# Altium footprint library CartSimple.PCBLIB: 166 footprints (part 1 of 11)
Each footprint in its own frame and in the unit in brackets; x right, y up, seen from the top. Pads: shape width x height; smd on the part's side, far side on the other; paste and mask are expansions set on the pad; w line width, h text height; cw(c..) or ccw(c..) is an arc to the next point about the centre after c.
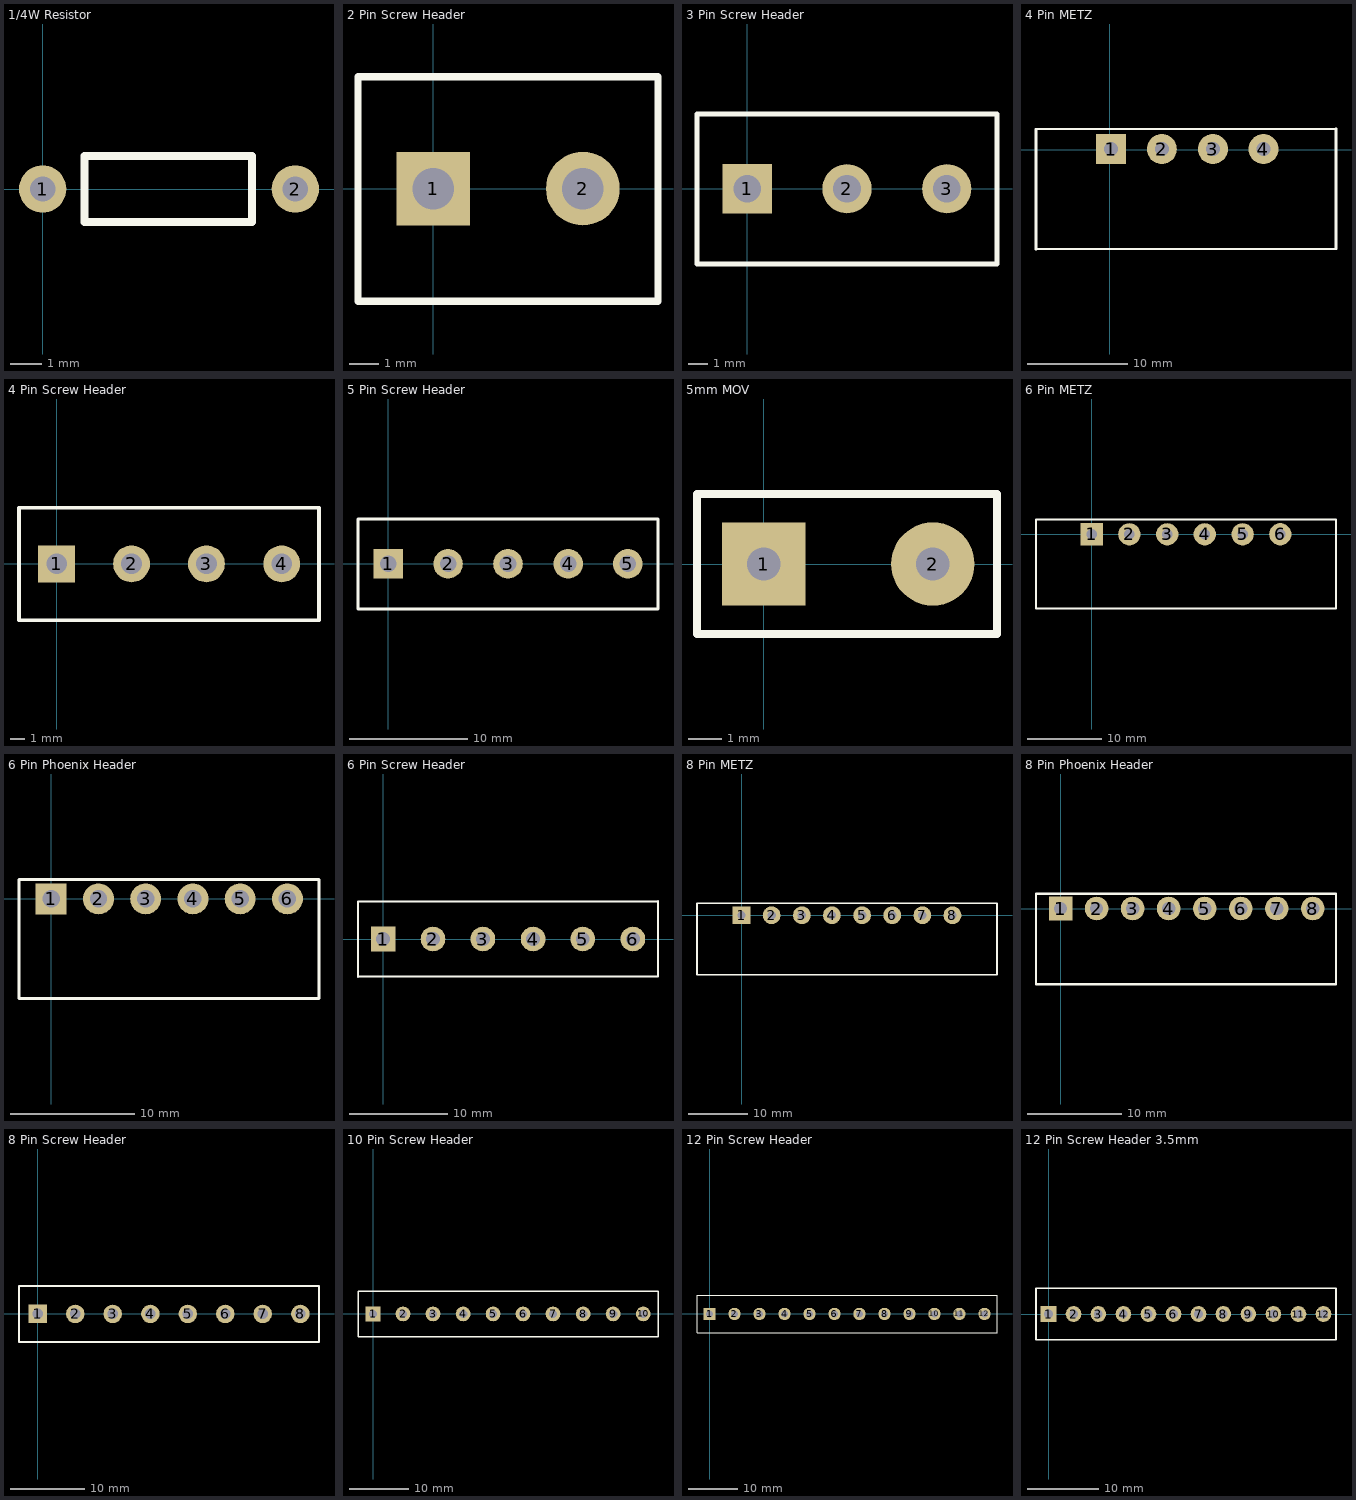
[diagram p0: the footprints below, top view; thin cyan lines are the x and y axes]

## 1/4W Resistor [mm]
pads (2):
  round 1.5 hole 0.8: 1(0,0) 2(8,0)
Top Overlay:
  lines w0.254: 1.325,-1.05 1.325,1.05 6.625,1.05 6.625,-1.05 1.325,-1.05

## 2 Pin Screw Header [mm]
pads (2):
  rect 2.5x2.5 hole 1.4: 1(0,0)
  round 2.5 hole 1.4: 2(5.075,0)
Top Overlay:
  lines w0.254: -2.55,-3.825 7.625,-3.825 7.625,3.8 -2.55,3.8 -2.55,-3.825

## 3 Pin Screw Header  [mm]
pads (3):
  rect 2.5x2.5 hole 1.4: 1(0,0)
  round 2.5 hole 1.4: 2(5.075,0) 3(10.15,0)
Top Overlay:
  lines w0.254: -2.55,-3.825 -2.55,3.8 12.7,3.8 12.7,-3.825 -2.55,-3.825

## 4 Pin METZ [mm] "4 Way 5.08 Header"
pads (4):
  rect 3x3 hole 1.4: 1(0.125,0.05)
  round 3 hole 1.4: 2(5.2,0.05) 3(10.3,0.05) 4(15.35,0.05)
Top Overlay:
  lines w0.254: -7.375,-9.95 22.6,-9.925 22.6,2.075 -7.375,2.05 -7.375,-9.95

## 4 Pin Screw Header [mm]
pads (4):
  rect 2.5x2.5 hole 1.4: 1(0,0)
  round 2.5 hole 1.4: 2(5.075,0) 3(10.15,0) 4(15.25,0)
Top Overlay:
  lines w0.254: -2.55,-3.825 17.775,-3.825 17.775,3.8 -2.55,3.8 -2.55,-3.825

## 5 Pin Screw Header  [mm]
pads (5):
  rect 2.5x2.5 hole 1.4: 1(0,0)
  round 2.5 hole 1.4: 2(5.075,0) 3(10.15,0) 4(15.25,0) 5(20.3,0)
Top Overlay:
  lines w0.254: -2.55,-3.825 22.85,-3.825 22.85,3.8 -2.55,3.8 -2.55,-3.825

## 5mm MOV [mm]
pads (2):
  rect 2.5x2.5 hole 1: 1(0,0)
  round 2.5 hole 1: 2(5.075,0)
Top Overlay:
  lines w0.254: -2,-2.1 -2,2.1 7,2.1 7,-2.1 -2,-2.1

## 6 Pin METZ  [mm] "6 Way 5.08 Header"
pads (6):
  rect 3x3 hole 1.4: 1(0,0)
  round 3 hole 1.4: 2(5.075,0) 3(10.175,0) 4(15.225,0) 5(20.325,0) 6(25.399,0.008)
Top Overlay:
  lines w0.254: -7.5,-10 -7.5,2 32.9,2 32.9,-10 -7.5,-10

## 6 Pin Phoenix Header  [mm]
pads (6):
  rect 2.5x2.5 hole 1.4: 1(0,0)
  round 2.5 hole 1.4: 2(3.81,0) 3(7.62,0) 4(11.43,0) 5(15.24,0) 6(19.05,0)
Top Overlay:
  lines w0.254: -2.6,-8.025 21.6,-8.025 21.6,1.55 -2.6,1.55 -2.6,-8.025

## 6 Pin Screw Header  [mm]
pads (6):
  rect 2.5x2.5 hole 1.4: 1(0,0)
  round 2.5 hole 1.4: 2(5.075,0) 3(10.15,0) 4(15.25,0) 5(20.3,0) 6(25.4,0)
Top Overlay:
  lines w0.254: -2.55,-3.825 27.95,-3.8 27.95,3.825 -2.55,3.8 -2.55,-3.825

## 8 Pin METZ [mm]
pads (8):
  rect 3x3 hole 1.4: 1(0,0)
  round 3 hole 1.4: 2(5.075,0) 3(10.175,0) 4(15.225,0) 5(20.325,0) 6(25.399,0.008) 7(30.475,0) 8(35.55,0)
Top Overlay:
  lines w0.254: -7.5,-10 43.05,-10 43.05,2 -7.5,2 -7.5,-10

## 8 Pin Phoenix Header [mm] "3.81mm 8 pin header"
pads (8):
  rect 2.5x2.5 hole 1.4: 1(0,0)
  round 2.5 hole 1.4: 2(3.81,0) 3(7.62,0) 4(11.43,0) 5(15.24,0) 6(19.05,0) 7(22.86,0) 8(26.67,0)
Top Overlay:
  lines w0.254: -2.6,-8.025 29.125,-8 29.125,1.575 -2.6,1.55 -2.6,-8.025

## 8 Pin Screw Header [mm]
pads (8):
  rect 2.5x2.5 hole 1.4: 1(0,0)
  round 2.5 hole 1.4: 2(5.075,0) 3(10.15,0) 4(15.25,0) 5(20.325,0) 6(25.4,0) 7(30.475,0) 8(35.575,0)
Top Overlay:
  lines w0.254: -2.55,-3.825 -2.55,3.8 38.1,3.8 38.1,-3.825 -2.55,-3.825

## 10 Pin Screw Header  [mm]
pads (10):
  rect 2.5x2.5 hole 1.4: 1(0,0)
  round 2.5 hole 1.4: 2(5.075,0) 3(10.15,0) 4(15.25,0) 5(20.325,0) 6(25.4,0) 7(30.475,0) 8(35.575,0) 9(40.65,0) 10(45.75,0)
Top Overlay:
  lines w0.254: -2.55,-3.825 48.25,-3.825 48.25,3.8 -2.55,3.8 -2.55,-3.825

## 12 Pin Screw Header  [mm]
pads (12):
  rect 2.5x2.5 hole 1.4: 1(0,0)
  round 2.5 hole 1.4: 2(5.075,0) 3(10.15,0) 4(15.25,0) 5(20.325,0) 6(25.4,0) 7(30.475,0) 8(35.575,0) 9(40.65,0) 10(45.725,0) 11(50.8,0) 12(55.9,0)
Top Overlay:
  lines w0.254: -2.55,-3.825 58.45,-3.825 58.45,3.8 -2.55,3.8 -2.55,-3.825

## 12 Pin Screw Header 3.5mm [mm]
pads (12):
  rect 2.2x2.2 hole 1.2: 1(0,0)
  round 2.2 hole 1.2: 2(3.5,0) 3(6.975,0) 4(10.475,0) 5(13.975,0) 6(17.475,0) 7(20.975,0) 8(24.45,0) 9(27.95,0) 10(31.45,0) 11(34.95,0) 12(38.45,0)
Top Overlay:
  lines w0.254: -1.75,-3.6 40.2,-3.6 40.2,3.6 -1.75,3.6 -1.75,-3.6